# EAGLE library part 6843 (library 6843)
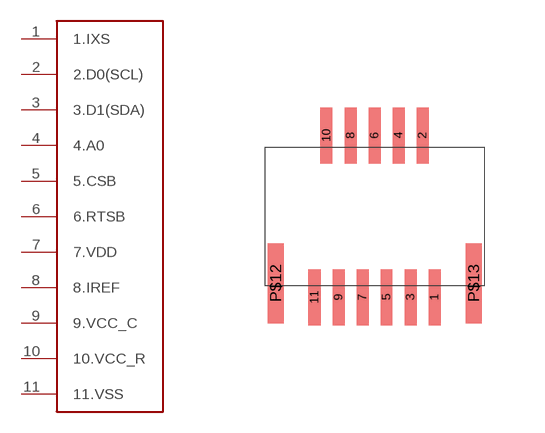
[diagram p0: symbol with the pads of 6843; footprint 6843]

Designator prefix -

## 6843  [6843]
1  1.IXS
2  2.D0(SCL)
3  3.D1(SDA)
4  4.A0
5  5.CSB
6  6.RTSB
7  7.VDD
8  8.IREF
9  9.VCC_C
10  10.VCC_R
11  11.VSS

## Footprint 6843 (pad centres in mm)
smd 0.3 x 1.4: 1 -1.25,-3.75; 2 -1.55,0.3; 3 -1.85,-3.75; 4 -2.15,0.3; 5 -2.45,-3.75; 6 -2.75,0.3; 7 -3.05,-3.75; 8 -3.35,0.3; 9 -3.65,-3.75; 10 -3.95,0.3; 11 -4.25,-3.75
smd 0.4 x 2: P$12 -5.22,-3.4; P$13 -0.27,-3.4